# Altium schematic symbol library TVS CEST363LC5VU.Schlib: 1 symbol
Pins are listed as number, name and electrical type; pins without a type are passive.

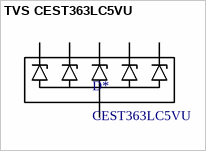
[diagram p0: symbol TVS CEST363LC5VU]

## TVS CEST363LC5VU
designator D*, comment CEST363LC5VU
Unidirectional 5V 6V 25V 6A (8/20us) SOT-363 Diodes - ESD RoHS; ComponentLink1Description: LCSC - CREATEK CEST363LC5VU; ComponentLink1URL: https://lcsc.com/product-detail/Diodes-ESD_CREATEK_CEST363LC5VU_CREATEK-CEST363LC5VU_C266647.html
footprint SOT-363-6
pins: 1 Cathode, 2 Common Anode, 3 Cathode, 4 Cathode, 5 Cathode, 6 Cathode